# Altium footprint library 排针-排母.PcbLib: 215 footprints (part 1 of 14)
Each footprint in its own frame and in the unit in brackets; x right, y up, seen from the top. Pads: shape width x height; smd on the part's side, far side on the other; paste and mask are expansions set on the pad; w line width, h text height; cw(c..) or ccw(c..) is an arc to the next point about the centre after c.
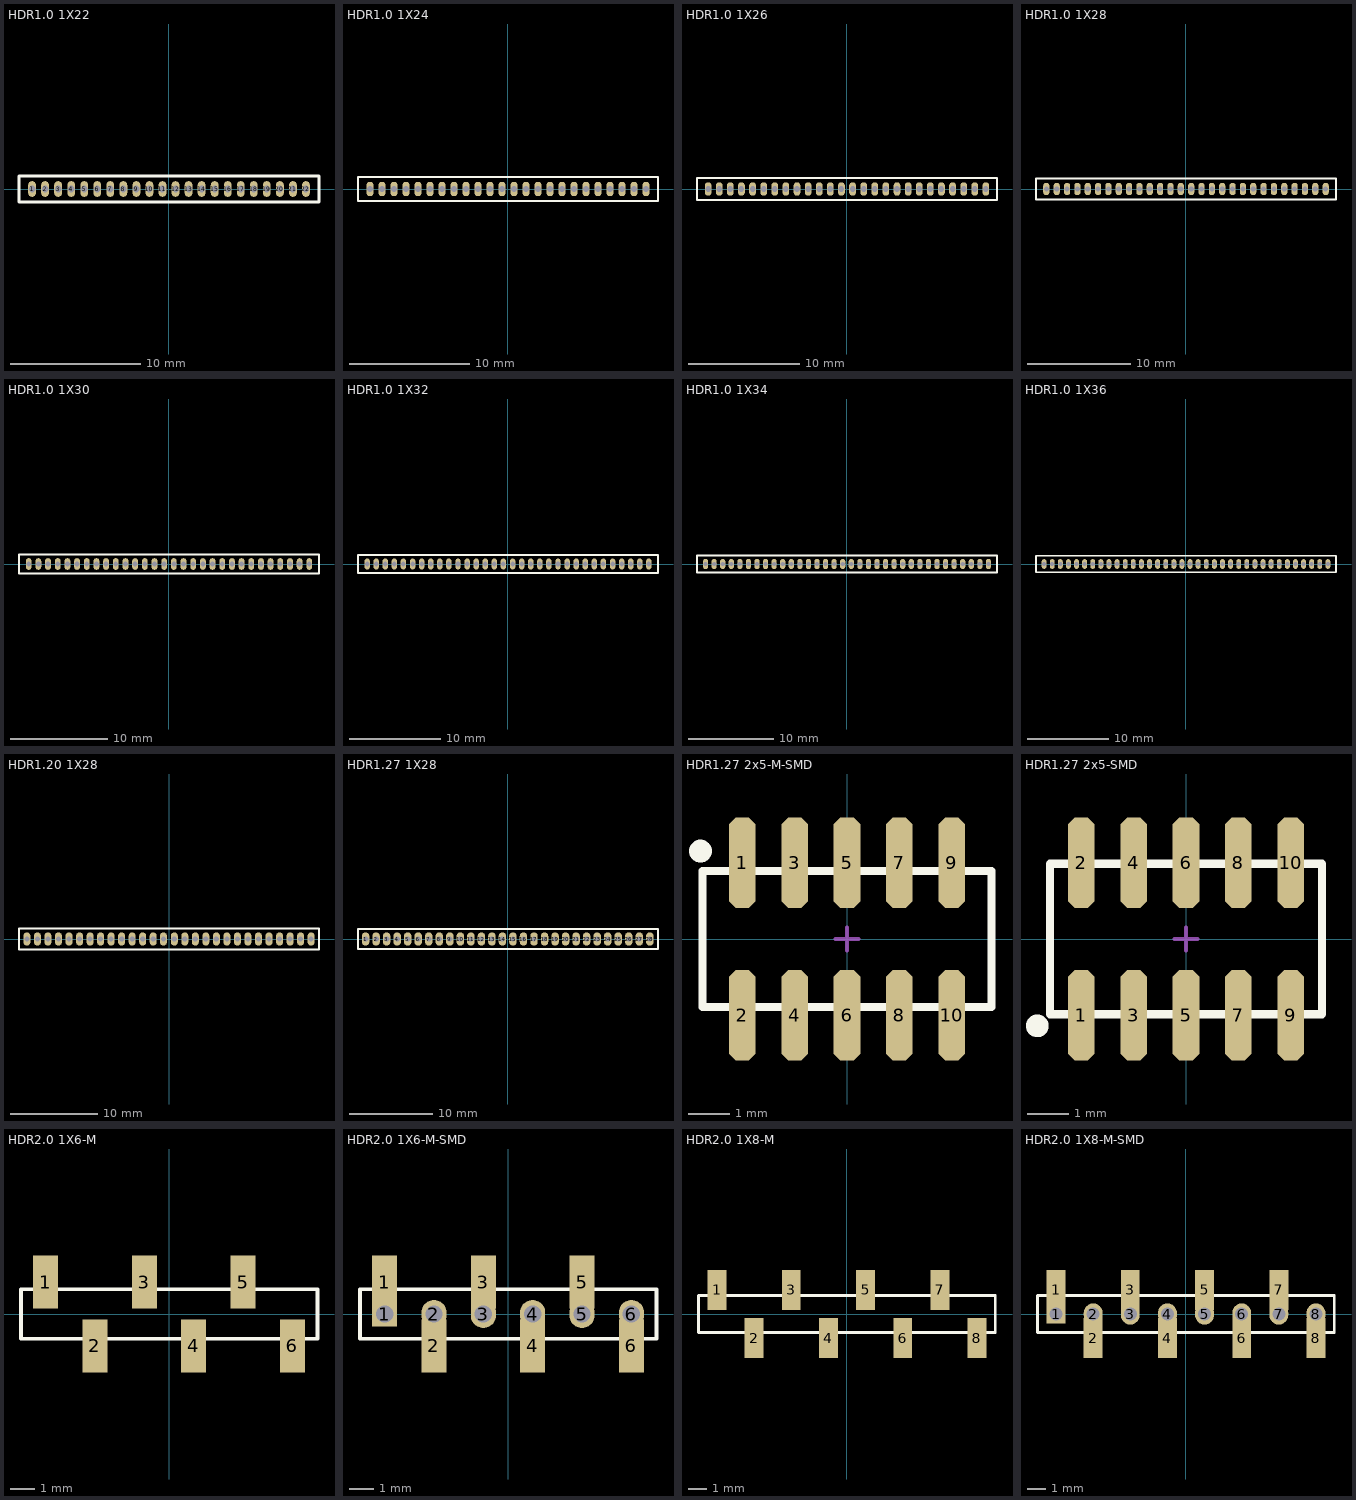
[diagram p0: the footprints below, top view; thin cyan lines are the x and y axes]

## HDR1.0 1X22 [mm] "1.0mm 1X22 PIN HEADER"
pads (22):
  oval 0.6x1.2 hole 0.5: 1(-10.5,0) 2(-9.5,0) 3(-8.5,0) 4(-7.5,0) 5(-6.5,0) 6(-5.5,0) 7(-4.5,0) 8(-3.5,0) 9(-2.5,0) 10(-1.5,0) 11(-0.5,0) 12(0.5,0) 13(1.5,0) 14(2.5,0) 15(3.5,0) 16(4.5,0) 17(5.5,0) 18(6.5,0) 19(7.5,0) 20(8.5,0) 21(9.5,0) 22(10.5,0)
Top Overlay:
  lines w0.203: -11.5,-1 11.5,-1 11.5,1 -11.5,1 -11.5,-1

## HDR1.0 1X24 [mm] "1.0mm 1X24 PIN HEADER"
pads (24):
  oval 0.6x1.2 hole 0.5: 1(-11.5,0) 2(-10.5,0) 3(-9.5,0) 4(-8.5,0) 5(-7.5,0) 6(-6.5,0) 7(-5.5,0) 8(-4.5,0) 9(-3.5,0) 10(-2.5,0) 11(-1.5,0) 12(-0.5,0) 13(0.5,0) 14(1.5,0) 15(2.5,0) 16(3.5,0) 17(4.5,0) 18(5.5,0) 19(6.5,0) 20(7.5,0) 21(8.5,0) 22(9.5,0) 23(10.5,0) 24(11.5,0)
Top Overlay:
  lines w0.203: -12.5,-1 -12.5,1 12.5,1 12.5,-1 -12.5,-1

## HDR1.0 1X26 [mm] "1.0mm 1X26 PIN HEADER"
pads (26):
  oval 0.6x1.2 hole 0.5: 1(-12.5,0) 2(-11.5,0) 3(-10.5,0) 4(-9.5,0) 5(-8.5,0) 6(-7.5,0) 7(-6.5,0) 8(-5.5,0) 9(-4.5,0) 10(-3.5,0) 11(-2.5,0) 12(-1.5,0) 13(-0.5,0) 14(0.5,0) 15(1.5,0) 16(2.5,0) 17(3.5,0) 18(4.5,0) 19(5.5,0) 20(6.5,0) 21(7.5,0) 22(8.5,0) 23(9.5,0) 24(10.5,0) 25(11.5,0) 26(12.5,0)
Top Overlay:
  lines w0.203: -13.5,-1 13.5,-1 13.5,1 -13.5,1 -13.5,-1

## HDR1.0 1X28 [mm] "1.0mm 1X28 PIN HEADER"
pads (28):
  oval 0.6x1.2 hole 0.5: 1(-13.5,0) 2(-12.5,0) 3(-11.5,0) 4(-10.5,0) 5(-9.5,0) 6(-8.5,0) 7(-7.5,0) 8(-6.5,0) 9(-5.5,0) 10(-4.5,0) 11(-3.5,0) 12(-2.5,0) 13(-1.5,0) 14(-0.5,0) 15(0.5,0) 16(1.5,0) 17(2.5,0) 18(3.5,0) 19(4.5,0) 20(5.5,0) 21(6.5,0) 22(7.5,0) 23(8.5,0) 24(9.5,0) 25(10.5,0) 26(11.5,0) 27(12.5,0) 28(13.5,0)
Top Overlay:
  lines w0.203: -14.5,-1 -14.5,1 14.5,1 14.5,-1 -14.5,-1

## HDR1.0 1X30 [mm] "1.0mm 1X30PIN HEADER"
pads (30):
  oval 0.6x1.2 hole 0.5: 1(-14.5,0) 2(-13.5,0) 3(-12.5,0) 4(-11.5,0) 5(-10.5,0) 6(-9.5,0) 7(-8.5,0) 8(-7.5,0) 9(-6.5,0) 10(-5.5,0) 11(-4.5,0) 12(-3.5,0) 13(-2.5,0) 14(-1.5,0) 15(-0.5,0) 16(0.5,0) 17(1.5,0) 18(2.5,0) 19(3.5,0) 20(4.5,0) 21(5.5,0) 22(6.5,0) 23(7.5,0) 24(8.5,0) 25(9.5,0) 26(10.5,0) 27(11.5,0) 28(12.5,0) 29(13.5,0) 30(14.5,0)
Top Overlay:
  lines w0.203: -15.5,-1 -15.5,1 15.5,1 15.5,-1 -15.5,-1

## HDR1.0 1X32 [mm] "1.0mm 1X32PIN HEADER"
pads (32):
  oval 0.6x1.2 hole 0.5: 1(-15.5,0) 2(-14.5,0) 3(-13.5,0) 4(-12.5,0) 5(-11.5,0) 6(-10.5,0) 7(-9.5,0) 8(-8.5,0) 9(-7.5,0) 10(-6.5,0) 11(-5.5,0) 12(-4.5,0) 13(-3.5,0) 14(-2.5,0) 15(-1.5,0) 16(-0.5,0) 17(0.5,0) 18(1.5,0) 19(2.5,0) 20(3.5,0) 21(4.5,0) 22(5.5,0) 23(6.5,0) 24(7.5,0) 25(8.5,0) 26(9.5,0) 27(10.5,0) 28(11.5,0) 29(12.5,0) 30(13.5,0) 31(14.5,0) 32(15.5,0)
Top Overlay:
  lines w0.203: -16.5,-1 16.5,-1 16.5,1 -16.5,1 -16.5,-1

## HDR1.0 1X34 [mm] "1.0mm 1X34PIN HEADER"
pads (34):
  oval 0.6x1.2 hole 0.5: 1(-16.5,0) 2(-15.5,0) 3(-14.5,0) 4(-13.5,0) 5(-12.5,0) 6(-11.5,0) 7(-10.5,0) 8(-9.5,0) 9(-8.5,0) 10(-7.5,0) 11(-6.5,0) 12(-5.5,0) 13(-4.5,0) 14(-3.5,0) 15(-2.5,0) 16(-1.5,0) 17(-0.5,0) 18(0.5,0) 19(1.5,0) 20(2.5,0) 21(3.5,0) 22(4.5,0) 23(5.5,0) 24(6.5,0) 25(7.5,0) 26(8.5,0) 27(9.5,0) 28(10.5,0) 29(11.5,0) 30(12.5,0) 31(13.5,0) 32(14.5,0) 33(15.5,0) 34(16.5,0)
Top Overlay:
  lines w0.203: -17.5,-1 17.5,-1 17.5,1 -17.5,1 -17.5,-1

## HDR1.0 1X36 [mm] "1.0mm 1X36PIN HEADER"
pads (36):
  oval 0.6x1.2 hole 0.5: 1(-17.5,0) 2(-16.5,0) 3(-15.5,0) 4(-14.5,0) 5(-13.5,0) 6(-12.5,0) 7(-11.5,0) 8(-10.5,0) 9(-9.5,0) 10(-8.5,0) 11(-7.5,0) 12(-6.5,0) 13(-5.5,0) 14(-4.5,0) 15(-3.5,0) 16(-2.5,0) 17(-1.5,0) 18(-0.5,0) 19(0.5,0) 20(1.5,0) 21(2.5,0) 22(3.5,0) 23(4.5,0) 24(5.5,0) 25(6.5,0) 26(7.5,0) 27(8.5,0) 28(9.5,0) 29(10.5,0) 30(11.5,0) 31(12.5,0) 32(13.5,0) 33(14.5,0) 34(15.5,0) 35(16.5,0) 36(17.5,0)
Top Overlay:
  lines w0.203: -18.5,-1 -18.5,1 18.5,1 18.5,-1 -18.5,-1

## HDR1.20 1X28 [mm] "1.27mm 1X28 PIN HEADER"
pads (28):
  oval 0.8x1.5 hole 0.6: 1(-16.2,0) 2(-15,0) 3(-13.8,0) 4(-12.6,0) 5(-11.4,0) 6(-10.2,0) 7(-9,0) 8(-7.8,0) 9(-6.6,0) 10(-5.4,0) 11(-4.2,0) 12(-3,0) 13(-1.8,0) 14(-0.635,0) 15(0.6,0) 16(1.8,0) 17(3,0) 18(4.2,0) 19(5.4,0) 20(6.6,0) 21(7.8,0) 22(9,0) 23(10.2,0) 24(11.4,0) 25(12.6,0) 26(13.8,0) 27(15,0) 28(16.2,0)
Top Overlay:
  lines w0.203: -17.1,-1.2 -17.1,1.2 17.1,1.2 17.1,-1.2 -17.1,-1.2

## HDR1.27 1X28 [mm] "1.27mm 1X28 PIN HEADER"
pads (28):
  oval 0.9x1.6 hole 0.65: 1(-17.145,0) 2(-15.875,0) 3(-14.605,0) 4(-13.335,0) 5(-12.065,0) 6(-10.795,0) 7(-9.525,0) 8(-8.255,0) 9(-6.985,0) 10(-5.715,0) 11(-4.445,0) 12(-3.175,0) 13(-1.905,0) 14(-0.635,0) 15(0.635,0) 16(1.905,0) 17(3.175,0) 18(4.445,0) 19(5.715,0) 20(6.985,0) 21(8.255,0) 22(9.525,0) 23(10.795,0) 24(12.065,0) 25(13.335,0) 26(14.605,0) 27(15.875,0) 28(17.145,0)
Top Overlay:
  lines w0.203: -18.059,-1.2 -18.059,1.2 18.136,1.2 18.136,-1.2 -18.059,-1.2

## HDR1.27 2x5-M-SMD [mm] "脚距：1.27mm，贴片双排母"
pads (10):
  oct 0.65x2.2 smd: 1(-2.54,1.85) 2(-2.54,-1.85) 3(-1.27,1.85) 4(-1.27,-1.85) 5(0,1.85) 6(0,-1.85) 7(1.27,1.85) 8(1.27,-1.85) 9(2.54,1.85) 10(2.54,-1.85)
Top Overlay:
  circle w0.5: c-3.556,2.134 r0.025
  lines w0.2: -3.505,-1.651 3.505,-1.651 3.505,1.651 -3.505,1.651 -3.505,-1.651
Mechanical 15:
  lines w0.102: -0.279,0 0.279,0 ; 0,-0.279 0,0.279
3D body "29755.stp": height 4.77, standoff 0.07, extent -3.353,-2.095 3.378,2.095

## HDR1.27 2x5-SMD [mm] "脚距：1.27mm，贴片双排母"
pads (10):
  oct 0.65x2.2 smd: 1(-2.54,-1.85) 2(-2.54,1.85) 3(-1.27,-1.85) 4(-1.27,1.85) 5(0,-1.85) 6(0,1.85) 7(1.27,-1.85) 8(1.27,1.85) 9(2.54,-1.85) 10(2.54,1.85)
Top Overlay:
  circle w0.5: c-3.607,-2.108 r0.025
  lines w0.2: -3.302,-1.829 3.302,-1.829 3.302,1.829 -3.302,1.829 -3.302,-1.829
Mechanical 15:
  lines w0.102: -0.279,0 0.279,0 ; 0,-0.279 0,0.279
3D body "User Library-RM127_10pin_Header.STEP": height 4.6, standoff 0.1, extent -3.175,-2.75 3.175,2.75

## HDR2.0 1X6-M [mil]
pads (6):
  rect 40x85 smd: 1(-196.85,51.06) 2(-118.11,-51.05) 3(-39.37,51.06) 4(39.37,-51.05) 5(118.11,51.06) 6(196.85,-51.05)
Top Overlay:
  lines w6: -236.22,-39.37 237.15,-39.37 237.15,39.37 -236.22,39.37 -236.22,-39.37

## HDR2.0 1X6-M-SMD [mil]
pads (12):
  rect 40x40 hole 27.56: 1(-196.85,0)
  rect 40x85 smd: 1(-196.85,51.06) 2(-118.11,-51.05) 3(-39.37,51.06) 4(39.37,-51.05) 5(118.11,51.06) 6(196.85,-51.05)
  oval 40x45 hole 27.56: 2(-118.11,0) 3(-39.37,0) 4(39.37,0) 5(118.11,0) 6(196.85,0)
Top Overlay:
  lines w6: -236.22,-39.37 237.15,-39.37 237.15,39.37 -236.22,39.37 -236.22,-39.37

## HDR2.0 1X8-M [mil]
pads (8):
  rect 40x85 smd: 1(-275.59,51.06) 2(-196.85,-51.05) 3(-118.11,51.06) 4(-39.37,-51.05) 5(39.37,51.06) 6(118.11,-51.05) 7(196.85,51.06) 8(275.59,-51.05)
Top Overlay:
  lines w6: -314.96,-39.37 314.41,-39.37 314.41,39.37 -314.96,39.37 -314.96,-39.37

## HDR2.0 1X8-M-SMD [mil]
pads (16):
  rect 40x40 hole 27.56: 1(-275.59,0)
  rect 40x85 smd: 1(-275.59,51.06) 2(-196.85,-51.05) 3(-118.11,51.06) 4(-39.37,-51.05) 5(39.37,51.06) 6(118.11,-51.05) 7(196.85,51.06) 8(275.59,-51.05)
  oval 40x45 hole 27.56: 2(-196.85,0) 3(-118.11,0) 4(-39.37,0) 5(39.37,0) 6(118.11,0) 7(196.85,0) 8(275.59,0)
Top Overlay:
  lines w6: -314.96,-39.37 -314.96,39.37 314.41,39.37 314.41,-39.37 -314.96,-39.37